# Altium footprint library modulo_programador_pcblib.PcbLib: 10 footprints
Each footprint in its own frame and in the unit in brackets; x right, y up, seen from the top. Pads: shape width x height; smd on the part's side, far side on the other; paste and mask are expansions set on the pad; w line width, h text height; cw(c..) or ccw(c..) is an arc to the next point about the centre after c.
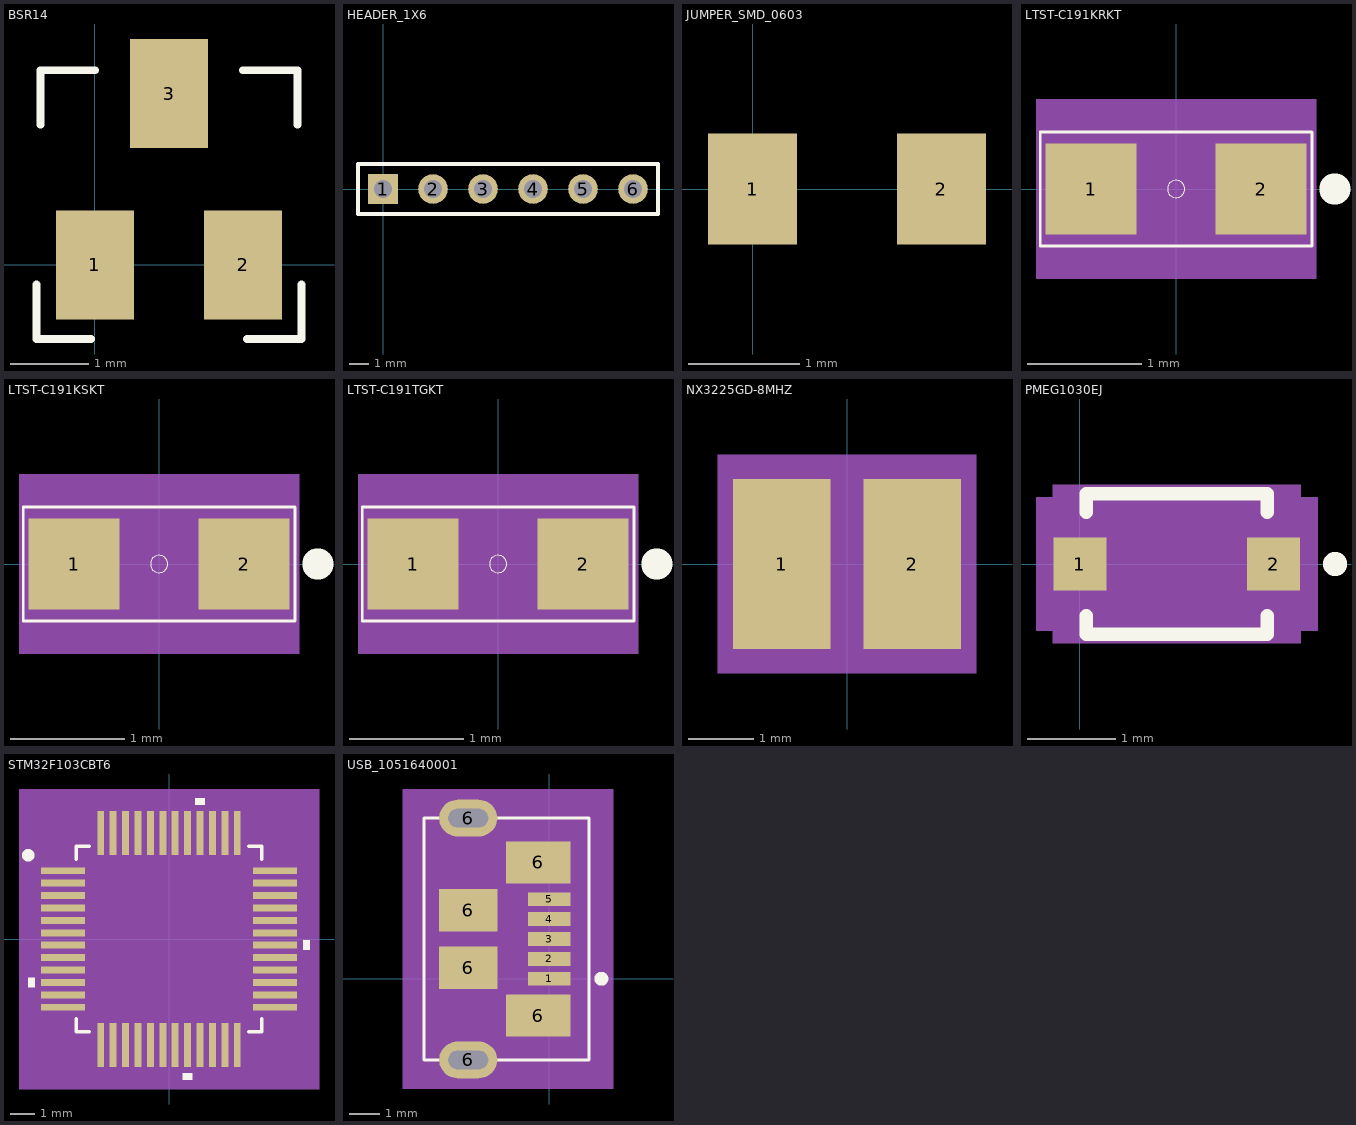
[diagram p0: the footprints below, top view; thin cyan lines are the x and y axes]

## BSR14 [mm]
pads (3):
  rect 1x1.4 smd: 1(0,0) 2(1.9,0) 3(0.95,2.2)
Top Overlay:
  lines w0.1: -0.75,-0.25 -0.75,-0.95 -0.05,-0.95 ; -0.7,1.8 -0.7,2.5 0,2.5 ; 1.9,2.5 2.6,2.5 2.6,1.8 ; 1.95,-0.95 2.65,-0.95 2.65,-0.25
3D body "BSR14CT-ND-SOT-23_214.STEP": height 1.1, standoff 0, extent -0.55,-0.15 2.45,2.35

## HEADER_1X6 [mm] "Connector; Header; 6 Position"
pads (6):
  rect 1.5x1.5 hole 0.9: 1(0,0)
  round 1.5 hole 0.9: 2(2.54,0) 3(5.08,0) 4(7.62,0) 5(10.16,0) 6(12.7,0)
Top Overlay:
  lines w0.2: -1.27,-1.27 -1.27,1.27 13.97,1.27 13.97,-1.27 -1.27,-1.27
3D body "1x6 TH Pitch 2_54mm.STEP": height 9.2, standoff -3.5, extent -1.275,-1.27 13.965,1.27

## JUMPER_SMD_0603 [mm]
pads (2):
  rect 0.8x1 smd: 1(0,0) 2(1.7,0)
3D body "yageo_resistor_0603.STEP": height 0.45, standoff -0.02, extent 0.05,-0.4 1.65,0.4

## LTST-C191KRKT [mm]
pads (2):
  rect 0.8x0.8 smd paste+0 mask+0: 1(-0.747,0) 2(0.747,0)
Top Overlay:
  circle w0: c0,0 r0.076
  circle w0.254: c1.394,0 r0.01
  lines w0.025: -1.194,-0.5 1.194,-0.5 1.194,0.5 -1.194,0.5 -1.194,-0.5
Mechanical 5:
  region: 1.231,-0.787 -1.231,-0.787 -1.231,0.787 1.231,0.787
Mechanical 13:
  circle w0: c0,0 r0.076
  lines w0.025: -0.889,-0.457 0.889,-0.457 0.889,0.457 -0.889,0.457 -0.889,-0.457
3D body "LTST-C191KRKT.STEP": height 0.9, standoff 0, extent -0.85,-0.45 0.85,0.45
3D body: height 0.25, standoff 0, extent 0,0 0.254,0.254

## LTST-C191KSKT [mm]
pads (2):
  rect 0.8x0.8 smd paste+0 mask+0: 1(-0.747,0) 2(0.747,0)
Top Overlay:
  circle w0.254: c1.394,0 r0.01
  circle w0: c0,0 r0.076
  lines w0.025: -1.194,-0.5 -1.194,0.5 1.194,0.5 1.194,-0.5 -1.194,-0.5
Mechanical 5:
  region: 1.231,-0.787 -1.231,-0.787 -1.231,0.787 1.231,0.787
Mechanical 13:
  circle w0: c0,0 r0.076
  lines w0.025: -0.889,-0.457 -0.889,0.457 0.889,0.457 0.889,-0.457 -0.889,-0.457
3D body "LTST-C191KSKT.STEP": height 0.9, standoff 0, extent -0.85,-0.45 0.85,0.45
3D body: height 0.25, standoff 0, extent 0,0 0.254,0.254

## LTST-C191TGKT [mm]
pads (2):
  rect 0.8x0.8 smd paste+0 mask+0: 1(-0.747,0) 2(0.747,0)
Top Overlay:
  circle w0.254: c1.394,0 r0.01
  circle w0: c0,0 r0.076
  lines w0.025: -1.194,-0.5 -1.194,0.5 1.194,0.5 1.194,-0.5 -1.194,-0.5
Mechanical 5:
  region: 1.231,-0.787 -1.231,-0.787 -1.231,0.787 1.231,0.787
Mechanical 13:
  circle w0: c0,0 r0.076
  lines w0.025: -0.889,-0.457 -0.889,0.457 0.889,0.457 0.889,-0.457 -0.889,-0.457
3D body: height 0.25, standoff 0, extent 0,0 0.254,0.254
3D body "LTST-C191TGKT.STEP": height 0.9, standoff 0, extent -0.85,-0.45 0.85,0.45

## NX3225GD-8MHZ [mm]
pads (2):
  rect 1.5x2.6 smd paste+0 mask+0: 1(-1,0) 2(1,0)
Mechanical 5:
  region: 1.981,-1.676 -1.981,-1.676 -1.981,1.676 1.981,1.676
Mechanical 13:
  circle w0: c0,0 r0.076
  lines w0.025: -1.651,-1.295 1.651,-1.295 1.651,1.295 -1.651,1.295 -1.651,-1.295
Mechanical 15:
  region: -1.905,-1.448 -1.905,1.448 -1.905,1.549 1.905,1.549 1.905,1.448 1.905,-1.448 1.905,-1.549 -1.905,-1.549
  lines w0.152: -1.905,-1.549 -1.905,-1.448 -1.905,1.448 -1.905,1.549 1.905,1.549 1.905,1.448 1.905,-1.448 1.905,-1.549 -1.905,-1.549
3D body "XTAL_NX3225GD-8MHZ-STD-CRA-3-M.step": height 0.99, standoff 0, extent -1.651,-1.295 1.651,1.295
3D body: height 0.25, standoff 0, extent 0,0 0.254,0.254

## PMEG1030EJ [mm]
pads (2):
  rect 0.6x0.6 smd: 1(0,0) 2(2.2,0)
Top Overlay:
  circle w0.254: c2.9,0 r0.01
  lines w0.152: 0.071,-0.586 0.071,-0.8 2.129,-0.8 2.129,-0.586 ; 0.071,0.586 0.071,0.8 2.129,0.8 2.129,0.586
Mechanical 13:
  lines w0.025: 1.665,-0.673 2.002,-0.337 ; 1.665,0.673 2.002,0.337 ; -0.246,-0.203 0.198,-0.203 0.198,0.203 -0.246,0.203 -0.246,-0.203 ; 0.198,-0.673 2.002,-0.673 2.002,0.673 0.198,0.673 0.198,-0.673 ; 2.002,-0.203 2.446,-0.203 2.446,0.203 2.002,0.203 2.002,-0.203
Mechanical 15:
  region: -0.31,-0.761 -0.5,-0.761 -0.5,0.761 -0.31,0.761 -0.31,0.9 2.51,0.9 2.51,0.761 2.7,0.761 2.7,-0.761 2.51,-0.761 2.51,-0.9 -0.31,-0.9
3D body "PMEG1030EJ.STEP": height 1, standoff 0, extent -0.15,-0.675 2.35,0.675

## STM32F103CBT6 [mil]
pads (48):
  rect 70x11 smd paste+0 mask+0: 1(-168,108.27) 2(-168,88.58) 3(-168,68.9) 4(-168,49.21) 5(-168,29.53) 6(-168,9.84) 7(-168,-9.84) 8(-168,-29.53) 9(-168,-49.21) 10(-168,-68.9) 11(-168,-88.58) 12(-168,-108.27) 25(168,-108.27) 26(168,-88.58) 27(168,-68.9) 28(168,-49.21) 29(168,-29.53) 30(168,-9.84) 31(168,9.84) 32(168,29.53) 33(168,49.21) 34(168,68.9) 35(168,88.58) 36(168,108.27)
  rect 11x70 smd paste+0 mask+0: 13(-108.27,-168) 14(-88.58,-168) 15(-68.9,-168) 16(-49.21,-168) 17(-29.53,-168) 18(-9.84,-168) 19(9.84,-168) 20(29.53,-168) 21(49.21,-168) 22(68.9,-168) 23(88.58,-168) 24(108.27,-168) 37(108.27,168) 38(88.58,168) 39(68.9,168) 40(49.21,168) 41(29.53,168) 42(9.84,168) 43(-9.84,168) 44(-29.53,168) 45(-49.21,168) 46(-68.9,168) 47(-88.58,168) 48(-108.27,168)
Top Overlay:
  circle w10: c-223.43,132.87 r4.92
  region: -213,-61.4 -223,-61.4 -223,-76.4 -213,-76.4
  region: 37.03,-213 22.03,-213 22.03,-223 37.03,-223
  region: 213,-2.34 223,-2.34 223,-17.34 213,-17.34
  region: 56.71,213 41.71,213 41.71,223 56.71,223
  lines w6: -147,-126.87 -147,-147 -126.87,-147 ; -147,126.87 -147,147 -126.87,147 ; 126.87,-147 147,-147 147,-126.87 ; 126.87,147 147,147 147,126.87
Mechanical 1:
  region: 238,-238 -238,-238 -238,238 238,238
Mechanical 13:
  drawing of 196 lines, arcs and shapes, not listed
3D body: height 10, standoff 0, extent 0,0 10,10
3D body "LQFP-48-M.step": height 63.11, standoff 0, extent -180.98,-180.98 180.99,180.99

## USB_1051640001 [mm]
pads (11):
  rect 1.38x0.45 smd: 1(0,0) 2(0,0.65) 3(0,1.3) 4(0,1.95) 5(0,2.6)
  oval 1.9x1.2 hole 0.6 slot 1.3 at 0 deg: 6(-2.65,-2.65) 6(-2.65,5.25)
  rect 1.9x1.38 smd: 6(-2.65,0.36) 6(-2.65,2.24)
  rect 2.1x1.38 smd: 6(-0.36,-1.2) 6(-0.36,3.8)
Top Overlay:
  circle w0.254: c1.7,0 r0.1
  lines w0.1: -4.1,-2.65 1.3,-2.65 1.3,5.25 -2.65,5.25 -4.1,5.25 -4.1,-2.65
Mechanical 1:
  rectangle: -4.8,-3.6 2.1,6.2
3D body "USB_1051640001.STEP": height 2.73, standoff -0.58, extent -5.1,-2.8 0.33,5.4